# EAGLE library part ADXL345 (library zz-upenn 2)
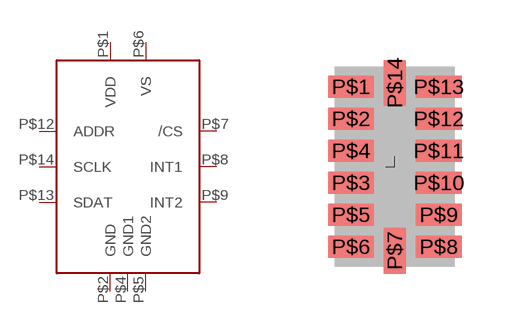
[diagram p18: symbol with the pads of LGA-14; footprint LGA-14]

Designator prefix -

## ADXL345  [LGA-14]
P$1  VDD
P$2  GND
P$4  GND1
P$5  GND2
P$6  VS
P$7  /CS
P$8  INT1
P$9  INT2
P$12  ADDR
P$13  SDAT
P$14  SCLK

## Footprint LGA-14 (pad centres in mm)
smd 1.145 x 0.55: P$1 -1.097,2; P$2 -1.097,1.2; P$3 -1.097,-0.4; P$4 -1.097,0.4; P$5 -1.097,-1.2; P$6 -1.097,-2; P$8 1.097,-2; P$9 1.097,-1.2; P$10 1.097,-0.4; P$11 1.097,0.4; P$12 1.097,1.2; P$13 1.097,2
smd 0.55 x 1.145: P$7 0,-2.098; P$14 0,2.098